# Altium footprint library O_JonF_DaveL.PcbLib: 331 footprints (part 5 of 21)
Each footprint in its own frame and in the unit in brackets; x right, y up, seen from the top. Pads: shape width x height; smd on the part's side, far side on the other; paste and mask are expansions set on the pad; w line width, h text height; cw(c..) or ccw(c..) is an arc to the next point about the centre after c.
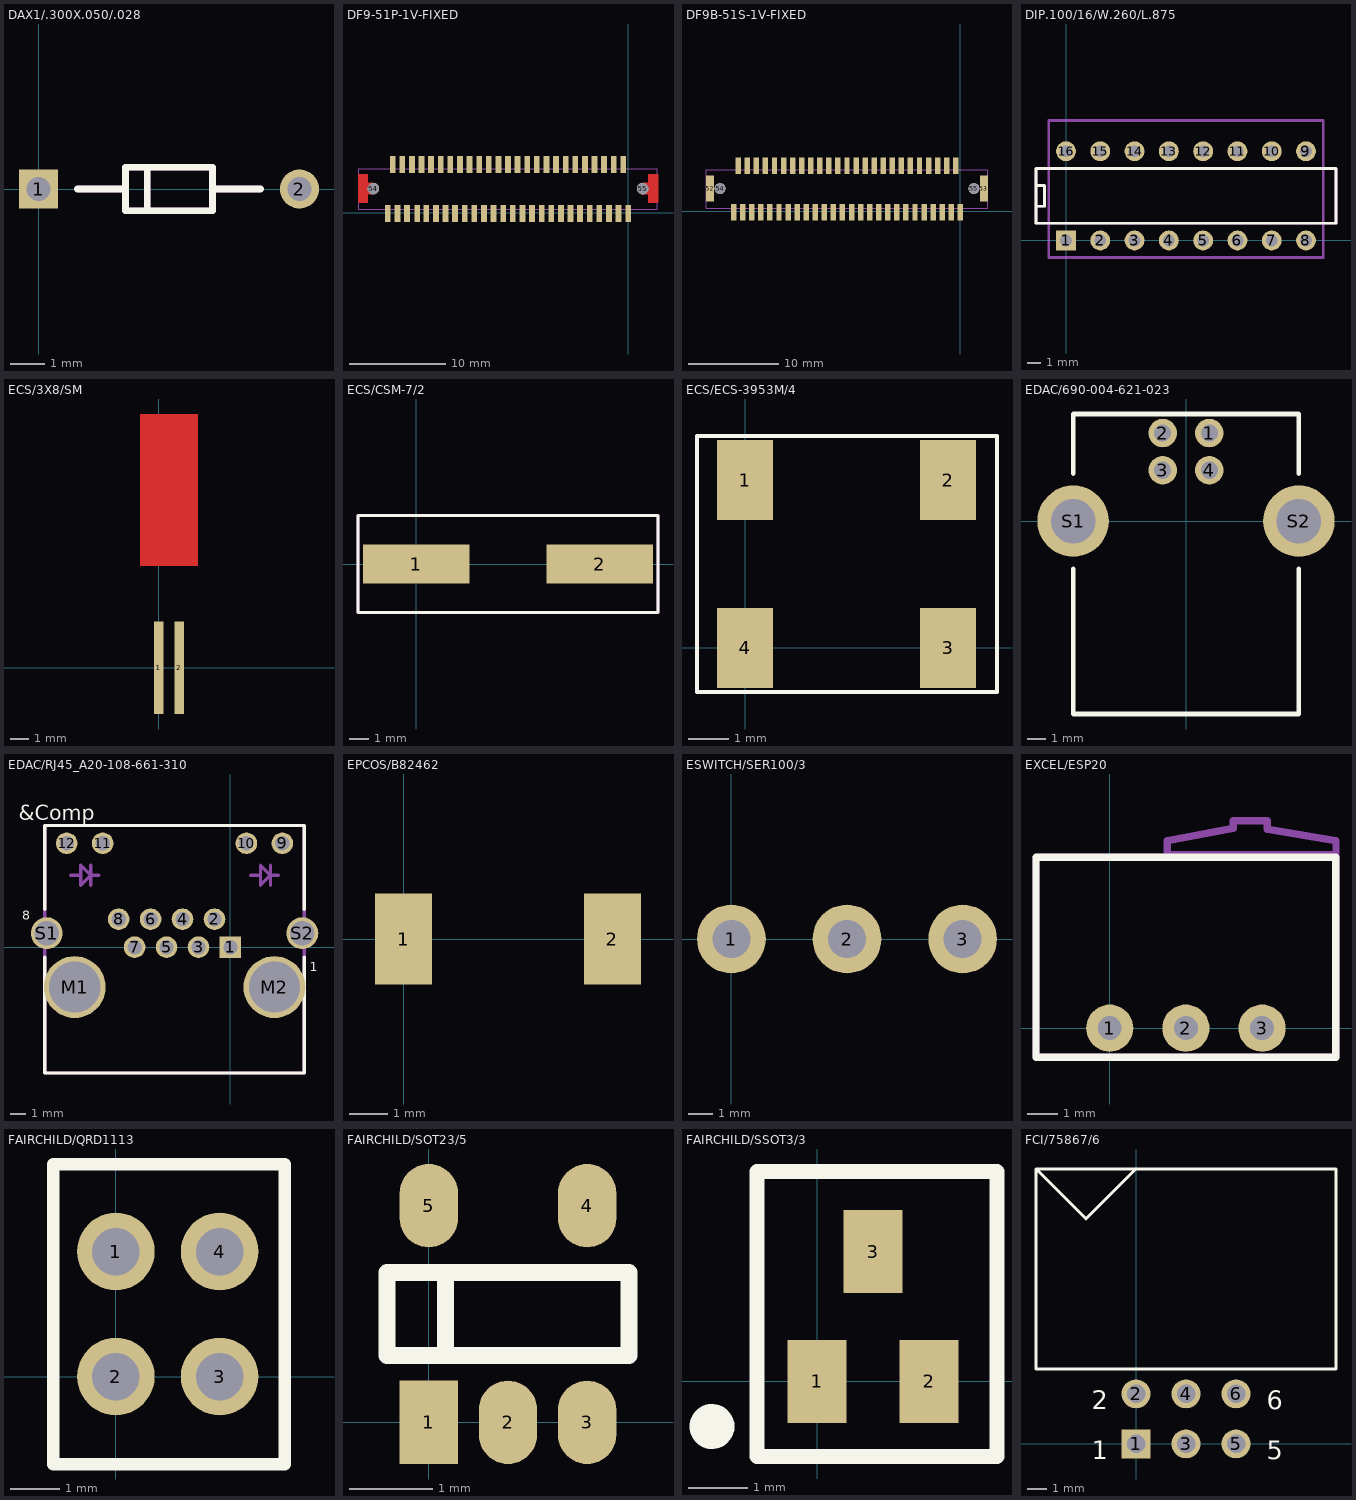
[diagram p4: the footprints below, top view; thin cyan lines are the x and y axes]

## DAX1/.300X.050/.028 [mil]
pads (2):
  rect 45x45 hole 28: 1(0,0)
  round 45 hole 28: 2(300,0)
Top Overlay:
  lines w8: 45,0 100,0 ; 125,-25 125,25 ; 200,0 255,0 ; 100,-25 200,-25 200,25 100,25 100,-25
  text ".Designator" at 85.45,41.88 h37.5
Mechanical 1:
  lines w8: 45,0 100,0 ; 125,-25 125,25 ; 200,0 255,0 ; 100,-25 200,-25 200,25 100,25 100,-25
  text ".Pattern" at -6.43,-18.38 h22.5
  text ".Comment" at 67.67,-81.23 h37.5
  text ".Designator" at 85.45,41.88 h37.5

## DF9-51P-1V-FIXED [mm]
pads (53):
  rect 0.6x1.8 smd: 1(-25,-0.1) 2(-24,-0.1) 3(-23,-0.1) 4(-21.95,-0.1) 5(-21,-0.1) 6(-20,-0.1) 7(-19,-0.1) 8(-18,-0.1) 9(-17,-0.1) 10(-16,-0.1) 11(-15,-0.1) 12(-14,-0.1) 13(-13,-0.1) 14(-12,-0.1) 15(-11,-0.1) 16(-10,-0.1) 17(-9,-0.1) 18(-8,-0.1) 19(-7,-0.1) 20(-6,-0.1) 21(-5,-0.1) 22(-4,-0.1) 23(-3,-0.1) 24(-2,-0.1) 25(-1,-0.1) 26(0,-0.1) 27(-24.5,5) 28(-23.5,5) 29(-22.5,5) 30(-21.5,5) 31(-20.5,5) 32(-19.5,5) 33(-18.5,5) 34(-17.5,5) 35(-16.5,5) 36(-15.5,5) 37(-14.5,5) 38(-13.5,5) 39(-12.5,5) 40(-11.5,5) 41(-10.5,5) 42(-9.5,5) 43(-8.5,5) 44(-7.5,5) 45(-6.5,5) 46(-5.5,5) 47(-4.5,5) 48(-3.5,5) 49(-2.5,5) 50(-1.5,5) 51(-0.5,5)
  round 1.2 hole 1.2: 54(-26.5,2.5) 55(1.5,2.5)
Top Layer:
  region: 3.088,3.988 3.104,3.95 3.104,1.05 3.088,1.012 3.05,0.996 2.15,0.996 2.112,1.012 2.096,1.05 2.096,1.896 1.5,1.896 1.462,1.912 1.446,1.95 1.446,3.05 1.462,3.088 1.5,3.104 2.096,3.104 2.096,3.95 2.112,3.988 2.15,4.004 3.05,4.004
  region: -27.112,3.988 -27.096,3.95 -27.096,3.104 -26.55,3.104 -26.512,3.088 -26.496,3.05 -26.496,1.95 -26.512,1.912 -26.55,1.896 -27.096,1.896 -27.096,1.05 -27.112,1.012 -27.15,0.996 -28.05,0.996 -28.088,1.012 -28.104,1.05 -28.104,3.95 -28.088,3.988 -28.05,4.004 -27.15,4.004
Top Overlay:
  text ".Designator" at -28,7 h1.5
Top Paste:
  region: 2.888,3.788 2.904,3.75 2.904,1.25 2.888,1.212 2.85,1.196 2.35,1.196 2.312,1.212 2.296,1.25 2.296,3.75 2.312,3.788 2.35,3.804 2.85,3.804
  region: -27.312,3.788 -27.296,3.75 -27.296,1.25 -27.312,1.212 -27.35,1.196 -27.85,1.196 -27.888,1.212 -27.904,1.25 -27.904,3.75 -27.888,3.788 -27.85,3.804 -27.35,3.804
Top Solder:
  region: 3.088,3.988 3.104,3.95 3.104,1.05 3.088,1.012 3.05,0.996 2.15,0.996 2.112,1.012 2.096,1.05 2.096,1.896 1.5,1.896 1.462,1.912 1.446,1.95 1.446,3.05 1.462,3.088 1.5,3.104 2.096,3.104 2.096,3.95 2.112,3.988 2.15,4.004 3.05,4.004
  region: -27.112,3.988 -27.096,3.95 -27.096,3.104 -26.55,3.104 -26.512,3.088 -26.496,3.05 -26.496,1.95 -26.512,1.912 -26.55,1.896 -27.096,1.896 -27.096,1.05 -27.112,1.012 -27.15,0.996 -28.05,0.996 -28.088,1.012 -28.104,1.05 -28.104,3.95 -28.088,3.988 -28.05,4.004 -27.15,4.004
Mechanical 1:
  lines w0.001: -28.05,0.35 -28.05,4.55 3.05,4.55 3.05,0.35 -28.05,0.35
  text ".Designator" at -28,7 h1.5
  text ".Pattern" at -24,1 h1.5

## DF9B-51S-1V-FIXED [mm]
pads (55):
  rect 0.6x1.8 smd: 1(0,-0.1) 2(-1,-0.1) 3(-2,-0.1) 4(-3,-0.1) 5(-4,-0.1) 6(-5,-0.1) 7(-6,-0.1) 8(-7,-0.1) 9(-8,-0.1) 10(-9,-0.1) 11(-10,-0.1) 12(-11,-0.1) 13(-12,-0.1) 14(-13,-0.1) 15(-14,-0.1) 16(-15,-0.1) 17(-16,-0.1) 18(-17,-0.1) 19(-18,-0.1) 20(-19,-0.1) 21(-20,-0.1) 22(-21,-0.1) 23(-22,-0.1) 24(-23,-0.1) 25(-24,-0.1) 26(-25,-0.1) 27(-0.5,5) 28(-1.5,5) 29(-2.5,5) 30(-3.5,5) 31(-4.5,5) 32(-5.5,5) 33(-6.5,5) 34(-7.5,5) 35(-8.5,5) 36(-9.5,5) 37(-10.5,5) 38(-11.5,5) 39(-12.5,5) 40(-13.5,5) 41(-14.5,5) 42(-15.5,5) 43(-16.5,5) 44(-17.5,5) 45(-18.5,5) 46(-19.5,5) 47(-20.5,5) 48(-21.5,5) 49(-22.5,5) 50(-23.5,5) 51(-24.5,5)
  rect 0.899x2.9 smd: 52(-27.6,2.5) 53(2.6,2.5)
  round 1.2 hole 1.2: 54(-26.5,2.5) 55(1.5,2.5)
Top Overlay:
  text ".Designator" at -27.95,6.1 h1.5
Mechanical 1:
  lines w0.001: -28.05,0.35 -28.05,4.55 3.05,4.55 3.05,0.35 -28.05,0.35
  text ".Designator" at -27.964,6.086 h1.5
  text ".Pattern" at -28,-3 h1.5

## DIP.100/16/W.260/L.875 [mil]
pads (16):
  rect 58x58 hole 34: 1(0,0)
  round 58 hole 34: 2(100,0) 3(200,0) 4(300,0) 5(400,0) 6(500,0) 7(600,0) 8(700,0) 9(700,260) 10(600,260) 11(500,260) 12(400,260) 13(300,260) 14(200,260) 15(100,260) 16(0,260)
Top Overlay:
  lines w8: -84,160 -62.5,160 -62.5,100 -87.5,100 ; -87.5,100 -87.5,50 787.5,50 787.5,210 -87.5,210 -87.5,100
  text ".Designator" at -54.95,354.38 h37.5
Mechanical 1:
  lines w8: -84,160 -62.5,160 -62.5,100 -87.5,100 ; -87.5,100 -87.5,50 787.5,50 787.5,210 -87.5,210 -87.5,100
  text ".Designator" at 270.05,179.38 h37.5
  text ".Comment" at 262.67,71.88 h37.5
  text ".Pattern" at 161.67,136.63 h22.5
Mechanical 3:
  lines w8: -50,-50 -50,200 -50,350 750,350 750,-50 -50,-50

## ECS/3X8/SM [mm]
pads (2):
  rect 0.5x5 smd: 1(0,0) 2(1.1,0)
Top Layer:
  region: 2.1,13.7 2.101,13.7 2.101,5.5 2.1,5.5 2.1,5.499 -1,5.499 -1,5.5 -1.001,5.5 -1.001,13.7 -1,13.7 -1,13.701 2.1,13.701
Top Overlay:
  text ".Designator" at 2.28,-2.82 h1.5
Top Paste:
  region: 2.1,13.7 2.101,13.7 2.101,5.5 2.1,5.5 2.1,5.499 -1,5.499 -1,5.5 -1.001,5.5 -1.001,13.7 -1,13.7 -1,13.701 2.1,13.701
Top Solder:
  region: 2.1,13.7 2.101,13.7 2.101,5.5 2.1,5.5 2.1,5.499 -1,5.499 -1,5.5 -1.001,5.5 -1.001,13.7 -1,13.7 -1,13.701 2.1,13.701
Mechanical 1:
  region: 2.1,13.7 2.101,13.7 2.101,5.5 2.1,5.5 2.1,5.499 -1,5.499 -1,5.5 -1.001,5.5 -1.001,13.7 -1,13.7 -1,13.701 2.1,13.701
  text ".Pattern" at -0.53,-7.24 h1.5
  text ".Comment" at -0.45,-11.21 h1.5
  text ".Designator" at -0.56,-5.2 h1.5

## ECS/CSM-7/2 [mm]
pads (2):
  rect 5.5x2 smd: 1(0,0) 2(9.5,0)
Top Overlay:
  lines w0.152: -3,-2.5 -3,2.5 12.5,2.5 12.5,-2.5 -3,-2.5
  text ".Designator" at -2.812,2.579 h0.95
Mechanical 1:
  lines w0.152: -3,-2.5 12.5,-2.5 12.5,2.5 -3,2.5 -3,-2.5
  text ".Pattern" at -0.381,-1.8 h0.57
  text ".Comment" at -0.656,0.81 h0.95
  text ".Designator" at -0.177,-0.461 h0.95
Mechanical 3:
  lines w0.102: 1.27,0 ccw(c1.587,0) 1.587,-0.317 ccw(c1.587,0) 1.905,0 ccw(c1.587,0) 1.587,0.317 ccw(c1.587,0) 1.27,0

## ECS/ECS-3953M/4 [mm]
pads (4):
  rect 1.4x2 smd: 1(0,4.2) 2(5.08,4.2) 3(5.08,0) 4(0,0)
Top Overlay:
  lines w0.1: -1.2,-1.1 -1.2,5.3 6.3,5.3 6.3,-1.1 -1.2,-1.1
  text ".Designator" at -1.1,-1.15 h1.5
Mechanical 1:
  text ".Designator" at -1.1,-1.15 h1.5
  text ".Comment" at -1,2.85 h1.5
  text ".Pattern" at -1.05,-1 h1.5

## EDAC/690-004-621-023 [mil] "CONN USB JACK TYPE B HORIZON R/A"
height 433.07
pads (6):
  round 60 hole 36: 1(49,185) 2(-49,185) 3(-49,107) 4(49,107)
  round 150 hole 94: S1(-237,0) S2(237,0)
Top Overlay:
  lines w10: -237,-100 -237,-405 237,-405 237,-100 ; -237,100 -237,225 237,225 237,100

## EDAC/RJ45_A20-108-661-310 [mil]
pads (16):
  rect 54x54 / inner round 54 / far side rect 54x54 hole 36: 1(0,0)
  round 54 hole 36: 2(-40,70) 3(-80,0) 4(-120,70) 5(-160,0) 6(-200,70) 7(-240,0) 8(-280,70) 9(130,260) 10(40,260) 11(-320,260) 12(-410,260)
  round 155 hole 128: M1(-390,-100) M2(110,-100)
  round 80 hole 62: S1(-460,35) S2(180,35)
Top Overlay:
  lines w8: -465,-25 -465,-315 185,-315 185,-25 ; -465,95 -465,305 185,305 185,95
  text "1" at 198.5,-60.83 h23.25
  text "8" at -521.5,69.17 h23.25
  text ".Pattern" at 0,0 h37.5
  text "&Comp" at -529.5,318.33 h37.5
Mechanical 1:
  lines w8: -400,180 -375,180 ; -350,155 -350,205 ; -330,180 -350,180 ; 50,180 75,180 ; 100,155 100,205 ; 120,180 100,180 ; -375,180 -375,155 -350,180 ; -375,180 -375,205 -350,180 ; 75,180 75,155 100,180 ; 75,180 75,205 100,180 ; -465,-315 185,-315 185,305 -465,305 -465,-315
  text "7" at -256.5,-90.83 h23.25
  text "2" at -51.5,104.17 h23.25
  text "8" at -296.5,99.17 h23.25
  text "&Comp" at -184.5,-46.67 h37.5
  text "1" at -16.5,-90.83 h23.25

## EPCOS/B82462 [mm]
pads (2):
  rect 1.5x2.4 smd: 1(0,0) 2(5.5,0)
Top Overlay:
  text ".Designator" at -0.8,-4.8 h0.95
Mechanical 1:
  text ".Designator" at -0.8,-4.8 h0.95
  text ".Comment" at -0.2,1.3 h0.95
  text ".Pattern" at -2.6,-3.1 h0.95

## ESWITCH/SER100/3 [mil]
pads (3):
  round 110 hole 61: 1(0,0) 2(185,0) 3(370,0)
Top Overlay:
  text ".Designator" at -75,132.5 h56.25
Mechanical 1:
  text ".Designator" at -75,132.5 h56.25
  text ".Pattern" at -135,-230 h56.25

## EXCEL/ESP20 [mil]
pads (3):
  round 62 hole 31.5: 1(0,0) 2(100,0) 3(200,0)
Top Overlay:
  lines w9.84: -96.85,-38.15 -96.85,224.41 296.85,224.41 296.85,-38.15 -96.85,-38.15
  text ".Designator" at -96.97,-96.18 h37.5
Mechanical 1:
  lines w9.84: -96.85,-38.15 -96.85,224.41 296.85,224.41 296.85,-38.15 -96.85,-38.15 ; 75.43,227.83 75.43,246.02 162.44,262.4 162.44,272.28 207.13,272.28 207.13,260.94 297.09,246.26 297.09,227.83 75.43,227.83
  text ".Designator" at -96.97,-96.18 h37.5
  text ".Comment" at -95.12,-147.87 h37.5
  text ".Pattern" at -95.16,-262.99 h37.5

## FAIRCHILD/QRD1113 [mil]
pads (4):
  round 62 hole 38: 1(0,100) 2(0,0) 3(83,0) 4(83,100)
Top Overlay:
  lines w10: -50,-70 135,-70 135,170 -50,170 -50,-70
  text ".Designator" at -50,-87.5 h56.25
Mechanical 1:
  text ".Pattern" at 0,0 h56.25
  text ".Comment" at 0,225 h56.25
  text ".Designator" at 0,337.5 h56.25

## FAIRCHILD/SOT23/5 [mm]
pads (5):
  rect 0.7x1 smd: 1(0,0)
  oval 0.7x1 smd: 2(0.95,0) 3(1.9,0) 4(1.9,2.6) 5(0,2.6)
Top Overlay:
  lines w0.203: 0.2,0.8 0.2,1.8 ; -0.5,0.8 2.4,0.8 2.4,1.8 -0.5,1.8 -0.5,0.8

## FAIRCHILD/SSOT3/3 [mm]
pads (3):
  rect 1x1.4 smd: 1(0,0) 2(1.9,0) 3(0.95,2.2)
Top Overlay:
  circle w0.254: c-1.778,-0.762 r0.254
  lines w0.254: -2.032,-0.762 -1.524,-0.762 ; -1.016,-1.27 -1.016,3.556 3.048,3.556 3.048,-1.27 -1.016,-1.27

## FCI/75867/6 [mil]
height 375.98
pads (6):
  rect 58x58 hole 37: 1(0,0)
  round 58 hole 37: 2(0,100) 3(100,0) 4(100,100) 5(200,0) 6(200,100)
Top Overlay:
  lines w6: 0,550 -100,450 -200,550 ; -200,550 400,550 400,150 -200,150 -200,550
  text "1" at -88.88,-30.63 h37.5
  text "2" at -88.88,69.37 h37.5
  text "5" at 261.12,-30.63 h37.5
  text "6" at 261.12,69.37 h37.5
Mechanical 1:
  text "1" at -88.88,-30.63 h37.5
  text "2" at -88.88,69.37 h37.5
  text "5" at 261.12,-30.63 h37.5
  text "6" at 261.12,69.37 h37.5